# Altium schematic symbol library TPS63036YFGT.SchLib: 2 symbols
Pins are listed as number, name and electrical type; pins without a type are passive.

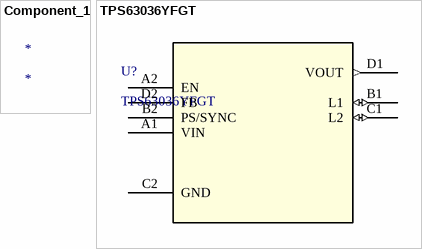
[diagram p0: symbols Component_1 to TPS63036YFGT]

## Component_1
designator *

## TPS63036YFGT
designator U?
No Description Available; Mfr_Name: Texas Instruments; Copyright: Copyright (C) 2022 Ultra Librarian. All rights reserved.; Manufacturer_Part_Number: TPS63036YFGT; RefDes: RefDes; Type: DEV
footprint YFG8_TEX
pins: A1 VIN, A2 EN, B1 L1 (io), B2 PS/SYNC, C1 L2 (io), C2 GND, D1 VOUT (out), D2 FB